# EAGLE library part USB3300 (library multicopter)
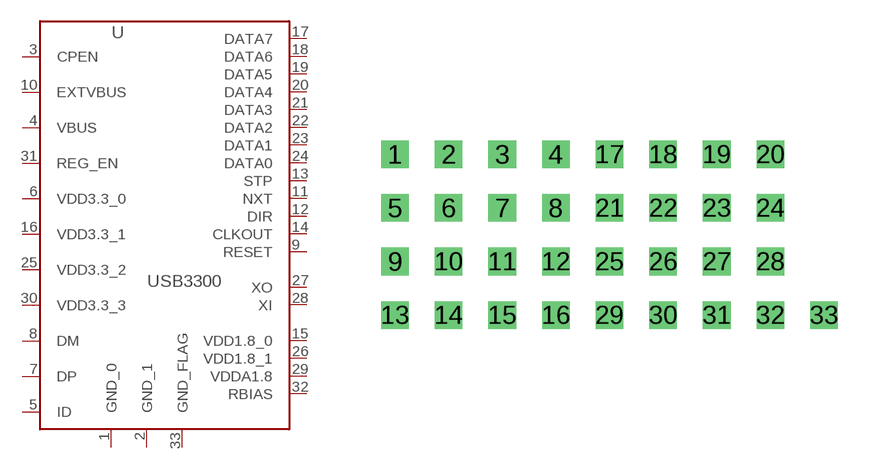
[diagram p3: symbol with the pads of MA32; footprint MA32]

Designator prefix -

## USB3300  [MA32]
1  GND_0
2  GND_1
3  CPEN
4  VBUS
5  ID
6  VDD3.3_0
7  DP
8  DM
9  RESET
10  EXTVBUS
11  NXT
12  DIR
13  STP
14  CLKOUT
15  VDD1.8_0
16  VDD3.3_1
17  DATA7
18  DATA6
19  DATA5
20  DATA4
21  DATA3
22  DATA2
23  DATA1
24  DATA0
25  VDD3.3_2
26  VDD1.8_1
27  XO
28  XI
29  VDDA1.8
30  VDD3.3_3
31  REG_EN
32  RBIAS
33  GND_FLAG

## Footprint MA32 (pad centres in mm)
drill 0.8 square: 1 0,5.08; 2 2.54,5.08; 3 5.08,5.08; 4 7.62,5.08; 5 0,2.54; 6 2.54,2.54; 7 5.08,2.54; 8 7.62,2.54; 9 0,0; 10 2.54,0; 11 5.08,0; 12 7.62,0; 13 0,-2.54; 14 2.54,-2.54; 15 5.08,-2.54; 16 7.62,-2.54; 17 10.16,5.08; 18 12.7,5.08; 19 15.24,5.08; 20 17.78,5.08; 21 10.16,2.54; 22 12.7,2.54; 23 15.24,2.54; 24 17.78,2.54; 25 10.16,0; 26 12.7,0; 27 15.24,0; 28 17.78,0; 29 10.16,-2.54; 30 12.7,-2.54; 31 15.24,-2.54; 32 17.78,-2.54; 33 20.32,-2.54